# EAGLE library part SHDRV_10_? (library pinheader)
Male pinheade, shrouded, 2.54 mm pitch
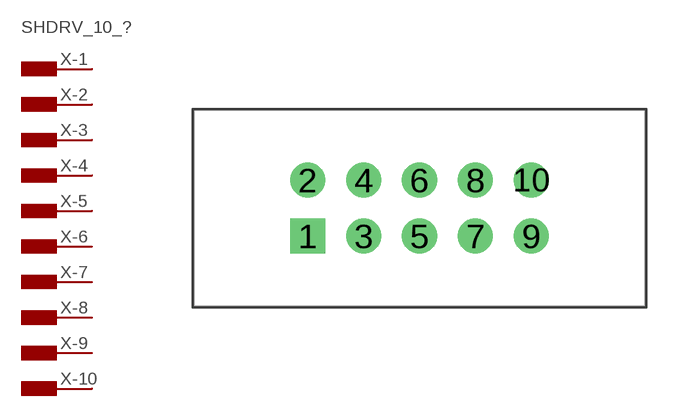
[diagram p2: symbol with the pads of SHDRV10W64P254_5X2_2050X890H890RN; footprint SHDRV10W64P254_5X2_2050X890H890RN]

Designator prefix X; gates -1=CONTACT_MALE -2=CONTACT_MALE -3=CONTACT_MALE -4=CONTACT_MALE -5=CONTACT_MALE -6=CONTACT_MALE -7=CONTACT_MALE -8=CONTACT_MALE -9=CONTACT_MALE -10=CONTACT_MALE G$1=VALUE

## SHDRV_10_THT (HEIGHT: 8.9; IDF_FAMILYNAME: HARTING_091X510X324_100081368MOD000B; IDF_PARTNUMBER: HARTING_091X510X324_100081368MOD000B)  [SHDRV10W64P254_5X2_2050X890H890RN]
1  -1:1
2  -2:1
3  -3:1
4  -4:1
5  -5:1
6  -6:1
7  -7:1
8  -8:1
9  -9:1
10  -10:1

## Footprint SHDRV10W64P254_5X2_2050X890H890RN (pad centres in mm)
Male, shrouded, vertical header Nominal Material Condition Body (LxWxH): 20.50mm x 8.90mm x 8.90mm Lead (b): 0.64mm, Rectangular Pitch (d x e): 2.54mm x 2.54mm Number of Contacts (N):10 (5x2) IPC Component Parameters materialCondition | 1 | Nominal (Nominal Density) bodyType | 1 | Male, shrouded contactShape | 0 | Rectangular ND | 5 NE | 2 indexScheme | 0 | Vertical first designatorScheme | 0 | Linear index, numeric designatorSymbols | ABCDEFGHIJKLMNOPQRSTUVWXYZ b | 0.640000 d | 2.540000 e | 2.540000 H | 8.900000 D | 20.500000 E | 8.900000 nameScheme | 0 | Standard manufacturerName | manufacturerPartNo | IPC Library Parameters fabTol | 0.050000 placeTol | 0.025000 padPlaceRoundOff | 0.010000 padSizeRoundOff | 0.010000 cornerRadius | 25.000000 cornerRadiusLimit | 0.250000 cornerRadiusRoundOff | 0.010000 thtPadSizeRoundOff | 0.010000 thtCourtyardExcess | 0.250000 thtCourtyardRound | 0.010000 thtHoleOverRoundLead | 0.200000 thtHoleOverRectangularLead | 0.150000 thtMinimumAnnularRing | 0.200000 thtPadToHoleRatio | 1.500000 courtyardLineWidth | 0.050000 legendLineWidth | 0.100000 | 0.120000 | 0.150000 legendClearance | 0.100000 | 0.120000 | 0.150000 legendFontHeight | 1.000000 | 1.200000 | 1.500000 legendFontRatio | 10.000000 legendRoundOff | 0.010000 componentFontHeight | 2.000000 componentLineWidth | 0.100000 componentRoundOff | 0.010000 Package generated by: tht_pinheader.ulp
drill 1.06 pad 1.59 square: 1 -5.08,-1.27
drill 1.06 pad 1.59: 2 -5.08,1.27; 3 -2.54,-1.27; 4 -2.54,1.27; 5 0,-1.27; 6 0,1.27; 7 2.54,-1.27; 8 2.54,1.27; 9 5.08,-1.27; 10 5.08,1.27